# Altium footprint library copper_suicide.PcbLib: 14 footprints
Each footprint in its own frame and in the unit in brackets; x right, y up, seen from the top. Pads: shape width x height; smd on the part's side, far side on the other; paste and mask are expansions set on the pad; w line width, h text height; cw(c..) or ccw(c..) is an arc to the next point about the centre after c.
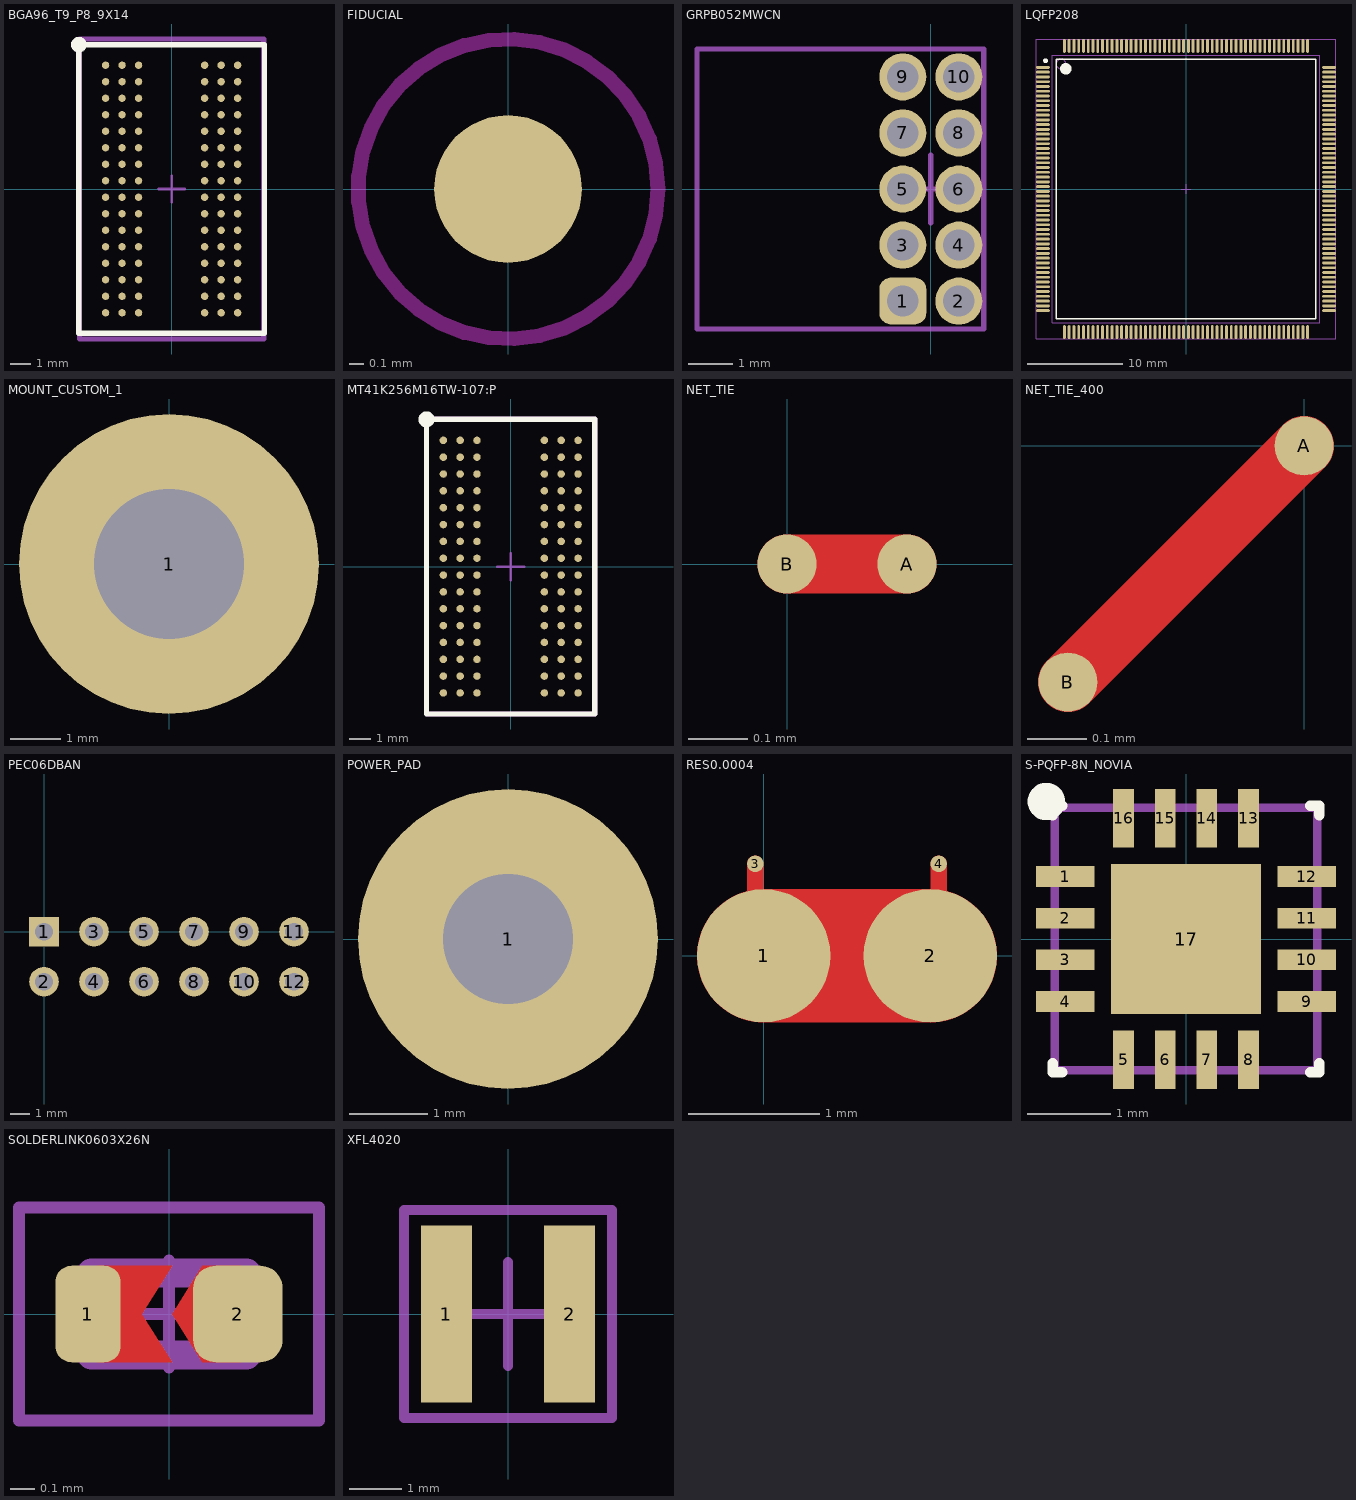
[diagram p0: the footprints below, top view; thin cyan lines are the x and y axes]

## BGA96_T9_P8_9X14 [mil] "BGA96_T9_P8_9X14"
pads (96):
  round 14 smd mask+2: A1(-126,236.25) A2(-94.5,236.25) A3(-63,236.25) A7(63,236.25) A8(94.5,236.25) A9(126,236.25) B1(-126,204.75) B2(-94.5,204.75) B3(-63,204.75) B7(63,204.75) B8(94.5,204.75) B9(126,204.75) C1(-126,173.25) C2(-94.5,173.25) C3(-63,173.25) C7(63,173.25) C8(94.5,173.25) C9(126,173.25) D1(-126,141.75) D2(-94.5,141.75) D3(-63,141.75) D7(63,141.75) D8(94.5,141.75) D9(126,141.75) E1(-126,110.25) E2(-94.5,110.25) E3(-63,110.25) E7(63,110.25) E8(94.5,110.25) E9(126,110.25) F1(-126,78.75) F2(-94.5,78.75) F3(-63,78.75) F7(63,78.75) F8(94.5,78.75) F9(126,78.75) G1(-126,47.25) G2(-94.5,47.25) G3(-63,47.25) G7(63,47.25) G8(94.5,47.25) G9(126,47.25) H1(-126,15.75) H2(-94.5,15.75) H3(-63,15.75) H7(63,15.75) H8(94.5,15.75) H9(126,15.75) J1(-126,-15.75) J2(-94.5,-15.75) J3(-63,-15.75) J7(63,-15.75) J8(94.5,-15.75) J9(126,-15.75) K1(-126,-47.25) K2(-94.5,-47.25) K3(-63,-47.25) K7(63,-47.25) K8(94.5,-47.25) K9(126,-47.25) L1(-126,-78.75) L2(-94.5,-78.75) L3(-63,-78.75) L7(63,-78.75) L8(94.5,-78.75) L9(126,-78.75) M1(-126,-110.25) M2(-94.5,-110.25) M3(-63,-110.25) M7(63,-110.25) M8(94.5,-110.25) M9(126,-110.25) N1(-126,-141.75) N2(-94.5,-141.75) N3(-63,-141.75) N7(63,-141.75) N8(94.5,-141.75) N9(126,-141.75) P1(-126,-173.25) P2(-94.5,-173.25) P3(-63,-173.25) P7(63,-173.25) P8(94.5,-173.25) P9(126,-173.25) R1(-126,-204.75) R2(-94.5,-204.75) R3(-63,-204.75) R7(63,-204.75) R8(94.5,-204.75) R9(126,-204.75) T1(-126,-236.25) T2(-94.5,-236.25) T3(-63,-236.25) T7(63,-236.25) T8(94.5,-236.25) T9(126,-236.25)
Top Overlay:
  circle w10: c-177,275.5 r10
  lines w10: -177,-275.5 177,-275.5 177,275.5 -177,275.5 -177,-275.5
Mechanical 15:
  lines w5: -25,0 25,0 ; 0,-25 0,25
  lines w10: -176,-286.25 176,-286.25 176,286.25 -176,286.25 -176,-286.25

## FIDUCIAL [mm] "PCBA Fiducual Mark"
pads (1):
  round 1 smd paste-0.5 mask+0.5: ""(0,0)
Top Layer keep-out:
  circle w0.1: c0,0 r1.016

## GRPB052MWCN [mil] "Male Header, 0.050\" Pitch, 2x5 Position, Right Angle"
height 157.48
pads (10):
  rrect50% 42x42 hole 28 mask+2: 1(-25,-100)
  round 42 hole 28 mask+2: 2(25,-100) 3(-25,-50) 4(25,-50) 5(-25,0) 6(25,0) 7(-25,50) 8(25,50) 9(-25,100) 10(25,100)
Bottom Overlay:
  lines w10: 47,125 59.06,125 59.06,105 ; 47.24,-125 59.06,-125 59.06,-105
Mechanical 31:
  lines w4.72: -30,0 30,0 ; 0,-30 0,30 ; -208.66,-125 47.24,-125 47.24,125 -208.66,125 -208.66,-125
3D body "GRPB052MWCN-RC.STEP": height 133.86, standoff -98.43, extent -208.66,-125 32.29,125

## LQFP208 [mm] "TSQFP, 208-Leads, Body 28.00x28.00mm, Pitch 0.50mm, IPC Medium Density"
height 1.6
pads (208):
  oval 1.45x0.3 smd: 1(-15,12.75) 2(-15,12.25) 3(-15,11.75) 4(-15,11.25) 5(-15,10.75) 6(-15,10.25) 7(-15,9.75) 8(-15,9.25) 9(-15,8.75) 10(-15,8.25) 11(-15,7.75) 12(-15,7.25) 13(-15,6.75) 14(-15,6.25) 15(-15,5.75) 16(-15,5.25) 17(-15,4.75) 18(-15,4.25) 19(-15,3.75) 20(-15,3.25) 21(-15,2.75) 22(-15,2.25) 23(-15,1.75) 24(-15,1.25) 25(-15,0.75) 26(-15,0.25) 27(-15,-0.25) 28(-15,-0.75) 29(-15,-1.25) 30(-15,-1.75) 31(-15,-2.25) 32(-15,-2.75) 33(-15,-3.25) 34(-15,-3.75) 35(-15,-4.25) 36(-15,-4.75) 37(-15,-5.25) 38(-15,-5.75) 39(-15,-6.25) 40(-15,-6.75) 41(-15,-7.25) 42(-15,-7.75) 43(-15,-8.25) 44(-15,-8.75) 45(-15,-9.25) 46(-15,-9.75) 47(-15,-10.25) 48(-15,-10.75) 49(-15,-11.25) 50(-15,-11.75) 51(-15,-12.25) 52(-15,-12.75) 105(15,-12.75) 106(15,-12.25) 107(15,-11.75) 108(15,-11.25) 109(15,-10.75) 110(15,-10.25) 111(15,-9.75) 112(15,-9.25) 113(15,-8.75) 114(15,-8.25) 115(15,-7.75) 116(15,-7.25) 117(15,-6.75) 118(15,-6.25) 119(15,-5.75) 120(15,-5.25) 121(15,-4.75) 122(15,-4.25) 123(15,-3.75) 124(15,-3.25) 125(15,-2.75) 126(15,-2.25) 127(15,-1.75) 128(15,-1.25) 129(15,-0.75) 130(15,-0.25) 131(15,0.25) 132(15,0.75) 133(15,1.25) 134(15,1.75) 135(15,2.25) 136(15,2.75) 137(15,3.25) 138(15,3.75) 139(15,4.25) 140(15,4.75) 141(15,5.25) 142(15,5.75) 143(15,6.25) 144(15,6.75) 145(15,7.25) 146(15,7.75) 147(15,8.25) 148(15,8.75) 149(15,9.25) 150(15,9.75) 151(15,10.25) 152(15,10.75) 153(15,11.25) 154(15,11.75) 155(15,12.25) 156(15,12.75)
  oval 0.3x1.45 smd: 53(-12.75,-15) 54(-12.25,-15) 55(-11.75,-15) 56(-11.25,-15) 57(-10.75,-15) 58(-10.25,-15) 59(-9.75,-15) 60(-9.25,-15) 61(-8.75,-15) 62(-8.25,-15) 63(-7.75,-15) 64(-7.25,-15) 65(-6.75,-15) 66(-6.25,-15) 67(-5.75,-15) 68(-5.25,-15) 69(-4.75,-15) 70(-4.25,-15) 71(-3.75,-15) 72(-3.25,-15) 73(-2.75,-15) 74(-2.25,-15) 75(-1.75,-15) 76(-1.25,-15) 77(-0.75,-15) 78(-0.25,-15) 79(0.25,-15) 80(0.75,-15) 81(1.25,-15) 82(1.75,-15) 83(2.25,-15) 84(2.75,-15) 85(3.25,-15) 86(3.75,-15) 87(4.25,-15) 88(4.75,-15) 89(5.25,-15) 90(5.75,-15) 91(6.25,-15) 92(6.75,-15) 93(7.25,-15) 94(7.75,-15) 95(8.25,-15) 96(8.75,-15) 97(9.25,-15) 98(9.75,-15) 99(10.25,-15) 100(10.75,-15) 101(11.25,-15) 102(11.75,-15) 103(12.25,-15) 104(12.75,-15) 157(12.75,15) 158(12.25,15) 159(11.75,15) 160(11.25,15) 161(10.75,15) 162(10.25,15) 163(9.75,15) 164(9.25,15) 165(8.75,15) 166(8.25,15) 167(7.75,15) 168(7.25,15) 169(6.75,15) 170(6.25,15) 171(5.75,15) 172(5.25,15) 173(4.75,15) 174(4.25,15) 175(3.75,15) 176(3.25,15) 177(2.75,15) 178(2.25,15) 179(1.75,15) 180(1.25,15) 181(0.75,15) 182(0.25,15) 183(-0.25,15) 184(-0.75,15) 185(-1.25,15) 186(-1.75,15) 187(-2.25,15) 188(-2.75,15) 189(-3.25,15) 190(-3.75,15) 191(-4.25,15) 192(-4.75,15) 193(-5.25,15) 194(-5.75,15) 195(-6.25,15) 196(-6.75,15) 197(-7.25,15) 198(-7.75,15) 199(-8.25,15) 200(-8.75,15) 201(-9.25,15) 202(-9.75,15) 203(-10.25,15) 204(-10.75,15) 205(-11.25,15) 206(-11.75,15) 207(-12.25,15) 208(-12.75,15)
Top Overlay:
  circle w0.6: c-12.6,12.6 r0.3
  circle w0.25: c-14.725,13.45 r0.125
  lines w0.2: -13.6,-13.6 13.6,-13.6 13.6,13.6 -13.6,13.6 -13.6,-13.6
Mechanical 13:
  circle w0.1: c-13.1,13.1 r0.5
  lines w0.1: -14,-14 14,-14 14,14 -14,14 -14,-14
Mechanical 15:
  lines w0.05: -15.7,-15.7 15.7,-15.7 15.7,15.7 -15.7,15.7 -15.7,-15.7
  lines w0.1: -0.5,0 0.5,0 ; 0,-0.5 0,0.5
3D body "SW3dPS-TQFP-208 v2.STEP": height 3.44, standoff -0.03, extent -15.31,-15.31 15.31,15.31

## MOUNT_CUSTOM_1 [mm] "Custom Clearance Hole"
pads (1):
  round 6 hole 3 paste+0: 1(0,0)

## MT41K256M16TW-107:P [mil] "BGA96_T9_P8_8X14"
pads (96):
  round 14 smd mask+2: A1(-126,236.25) A2(-94.5,236.25) A3(-63,236.25) A7(63,236.25) A8(94.5,236.25) A9(126,236.25) B1(-126,204.75) B2(-94.5,204.75) B3(-63,204.75) B7(63,204.75) B8(94.5,204.75) B9(126,204.75) C1(-126,173.25) C2(-94.5,173.25) C3(-63,173.25) C7(63,173.25) C8(94.5,173.25) C9(126,173.25) D1(-126,141.75) D2(-94.5,141.75) D3(-63,141.75) D7(63,141.75) D8(94.5,141.75) D9(126,141.75) E1(-126,110.25) E2(-94.5,110.25) E3(-63,110.25) E7(63,110.25) E8(94.5,110.25) E9(126,110.25) F1(-126,78.75) F2(-94.5,78.75) F3(-63,78.75) F7(63,78.75) F8(94.5,78.75) F9(126,78.75) G1(-126,47.25) G2(-94.5,47.25) G3(-63,47.25) G7(63,47.25) G8(94.5,47.25) G9(126,47.25) H1(-126,15.75) H2(-94.5,15.75) H3(-63,15.75) H7(63,15.75) H8(94.5,15.75) H9(126,15.75) J1(-126,-15.75) J2(-94.5,-15.75) J3(-63,-15.75) J7(63,-15.75) J8(94.5,-15.75) J9(126,-15.75) K1(-126,-47.25) K2(-94.5,-47.25) K3(-63,-47.25) K7(63,-47.25) K8(94.5,-47.25) K9(126,-47.25) L1(-126,-78.75) L2(-94.5,-78.75) L3(-63,-78.75) L7(63,-78.75) L8(94.5,-78.75) L9(126,-78.75) M1(-126,-110.25) M2(-94.5,-110.25) M3(-63,-110.25) M7(63,-110.25) M8(94.5,-110.25) M9(126,-110.25) N1(-126,-141.75) N2(-94.5,-141.75) N3(-63,-141.75) N7(63,-141.75) N8(94.5,-141.75) N9(126,-141.75) P1(-126,-173.25) P2(-94.5,-173.25) P3(-63,-173.25) P7(63,-173.25) P8(94.5,-173.25) P9(126,-173.25) R1(-126,-204.75) R2(-94.5,-204.75) R3(-63,-204.75) R7(63,-204.75) R8(94.5,-204.75) R9(126,-204.75) T1(-126,-236.25) T2(-94.5,-236.25) T3(-63,-236.25) T7(63,-236.25) T8(94.5,-236.25) T9(126,-236.25)
Top Overlay:
  circle w10: c-157.48,275.5 r10
  lines w10: -157.48,-275.5 157.48,-275.5 157.48,275.5 -157.48,275.5 -157.48,-275.5
Mechanical 15:
  lines w5: -25,0 25,0 ; 0,-25 0,25
  lines w10: -157.48,-275.59 157.48,-275.59 157.48,275.59 -157.48,275.59 -157.48,-275.59

## NET_TIE [mm]
pads (2):
  round 0.1 smd paste-0.051 mask+0: A(0.203,0) B(0,0)
Top Layer:
  lines w0.1: 0,0 0.203,0

## NET_TIE_400 [mm] "Net Tie 0.4mm 45deg"
pads (2):
  round 0.1 smd paste-0.051 mask+0: A(0,0) B(-0.4,-0.4)
Top Layer:
  lines w0.102: -0.4,-0.4 0,0

## PEC06DBAN [mm] "Connector; Header; 6x2 Position; Right Angle"
height 6.75
pads (12):
  rect 1.5x1.5 hole 0.9: 1(0,0)
  round 1.5 hole 0.9: 2(0,-2.54) 3(2.54,0) 4(2.54,-2.54) 5(5.08,0) 6(5.08,-2.54) 7(7.62,0) 8(7.62,-2.54) 9(10.16,0) 10(10.16,-2.54) 11(12.7,0) 12(12.7,-2.54)
Bottom Overlay:
  lines w0.2: -1.27,1.845 -0.695,1.27 13.97,1.27 13.97,2.54 -1.27,2.54 -1.27,1.845

## POWER_PAD [mil] "16AWG Wire Lead Hole"
pads (1):
  round 150 hole 65: 1(0,0)

## RES0.0004 [mil] "PCB Trace Resistor (for 2oz. copper)"
pads (4):
  round 40 smd paste-20 mask-20: 1(0,0) 2(50,0)
  round 5 smd paste-2.5 mask-2.5: 3(-2.5,27.56) 4(52.5,27.56)
Top Layer:
  lines w5: -2.5,0 -2.5,27.56 ; 52.5,0 52.5,27.56
  lines w40: 0,0 50,0

## S-PQFP-8N_NOVIA [mm] "Plastic Quad Flatpack No-Lead"
height 1
pads (17):
  rect 0.7x0.25 smd paste-0.025: 1(-1.45,0.75) 2(-1.45,0.25) 3(-1.45,-0.25) 4(-1.45,-0.75) 9(1.45,-0.75) 10(1.45,-0.25) 11(1.45,0.25) 12(1.45,0.75)
  rect 0.25x0.7 smd paste-0.025: 5(-0.75,-1.45) 6(-0.25,-1.45) 7(0.25,-1.45) 8(0.75,-1.45) 13(0.75,1.45) 14(0.25,1.45) 15(-0.25,1.45) 16(-0.75,1.45)
  rect 1.8x1.8 smd paste-0.025: 17(0,0)
Top Overlay:
  circle w0.25: c-1.675,1.65 r0.1
  lines w0.127: -1.6,-1.489 -1.6,-1.6 -1.488,-1.6 ; -1.6,1.488 -1.6,1.6 -1.488,1.6 ; 1.489,-1.6 1.6,-1.6 1.6,-1.489 ; 1.489,1.6 1.6,1.6 1.6,1.488
Mechanical 15:
  lines w0.1: -1.575,-1.575 1.575,-1.575 1.575,1.575 -1.575,1.575 -1.575,-1.575
  lines w0.127: -0.3,0 0.3,0 ; 0,-0.3 0,0.3
3D body: height 1, standoff 0, extent -1.575,-1.59 1.575,1.59

## SOLDERLINK0603X26N [mm] "Resistor, Chip; 0.60 mm L X 0.30 mm W X 0.26 mm H body"
height 0.26
pads (2):
  rrect50% 0.27x0.4 smd paste-0.4 mask+0.05: 1(-0.335,0)
  rrect50% 0.37x0.4 smd paste-0.4 mask+0.05: 2(0.285,0)
Top Layer:
  region: 0.013,-0.2 -0.112,0 0.013,0.2 -0.298,0.2 -0.298,-0.2
  region: 0.138,0.2 0.012,0 0.138,-0.2 0.298,-0.2 0.298,0.2
Top Solder:
  rectangle: -0.375,-0.25 0.35,0.25
Mechanical 11:
  circle w0.05: c0,0 r0.165
  lines w0.05: -0.22,0 0.22,0 ; 0,-0.22 0,0.22 ; -0.62,-0.44 -0.62,0.44 0.62,0.44 0.62,-0.44 -0.62,-0.44
Mechanical 15:
  lines w0.12: -0.32,-0.17 -0.32,0.17 0.32,0.17 0.32,-0.17 -0.32,-0.17

## XFL4020 [mm] "Shielded Power Inductor"
height 2.1
pads (2):
  rect 0.98x3.4 smd: 1(-1.185,0) 2(1.185,0)
Mechanical 15:
  lines w0.2: -1,0 1,0 ; 0,-1 0,1 ; -2,-2 -2,2 2,2 2,-2 -2,-2
3D body: height 2.1, standoff 0, extent -1.999,-1.999 1.999,1.999